# EAGLE library part NVT2002DP,118 (library NVT2002DP_118)
Translation - Voltage Levels Interface IC Source: Datasheet <http://www.nxp.com/docs/en/data-sheet/NVT2001_NVT2002.pdf>
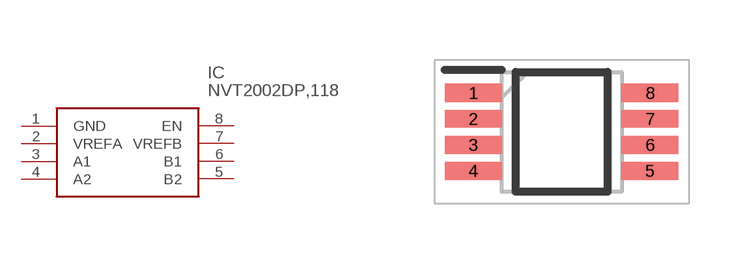
[diagram p0: symbol with the pads of SOP65P490X110-8N; footprint SOP65P490X110-8N]

Designator prefix IC

## NVT2002DP,118 (Description: Translation - Voltage Levels Interface IC; Height: 1.1mm; Manufacturer_Name: NXP; Manufacturer_Part_Number: NVT2002DP,118; Mouser_Part_Number: 771-NVT2002DP118; Mouser_Price-Stock: https://www.mouser.co.uk/ProductDetail/NXP-Semiconductors/NVT2002DP118?qs=htEP9ZFZyENRaE6OF%252BxM8A%3D%3D)  [SOP65P490X110-8N]
1  GND
2  VREFA
3  A1
4  A2
5  B2
6  B1
7  VREFB
8  EN

## Footprint SOP65P490X110-8N (pad centres in mm)
TSSOP8
smd 1.425 x 0.45: 1 -2.212,0.975; 2 -2.212,0.325; 3 -2.212,-0.325; 4 -2.212,-0.975; 5 2.212,-0.975; 6 2.212,-0.325; 7 2.212,0.325; 8 2.212,0.975